# EAGLE library part FH19C-12S-0.5SH(05) (library synapseWearV1-4)
CONN FFC BOTTOM 12POS 0.50MM R/A
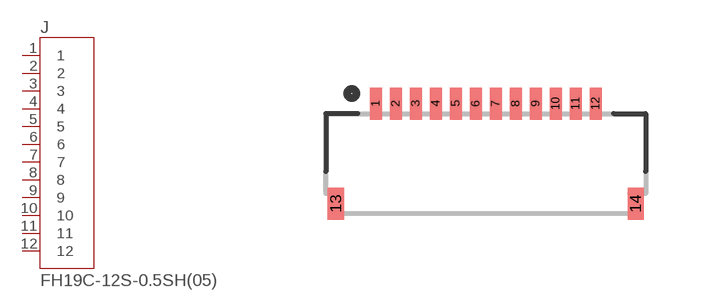
[diagram p11: symbol with the pads of HRS_FH19C-12S-0.5SH(05); footprint HRS_FH19C-12S-0.5SH(05)]

Designator prefix J

## FH19C-12S-0.5SH(05) (Availability: Good; Description: FFC / FPC Board Connector, FH19C Series, Surface Mount, Receptacle, 12, Bottom, 0.5 mm; MF: Hirose Electric; MP: FH19C-12S-0.5SH(05); Package: None; Price: 1.13 USD)  [HRS_FH19C-12S-0.5SH(05)]
1  1  pas
2  2  pas
3  3  pas
4  4  pas
5  5  pas
6  6  pas
7  7  pas
8  8  pas
9  9  pas
10  10  pas
11  11  pas
12  12  pas

## Footprint HRS_FH19C-12S-0.5SH(05) (pad centres in mm)
smd 0.3 x 0.8: 1 -2.75,0; 2 -2.25,0; 3 -1.75,0; 4 -1.25,0; 5 -0.75,0; 6 -0.25,0; 7 0.25,0; 8 0.75,0; 9 1.25,0; 10 1.75,0; 11 2.25,0; 12 2.75,0
smd 0.4 x 0.8: 13 -3.75,-2.5; 14 3.75,-2.5